# Altium footprint library 2.4G 天线.PcbLib: 14 footprints
Each footprint in its own frame and in the unit in brackets; x right, y up, seen from the top. Pads: shape width x height; smd on the part's side, far side on the other; paste and mask are expansions set on the pad; w line width, h text height; cw(c..) or ccw(c..) is an arc to the next point about the centre after c.
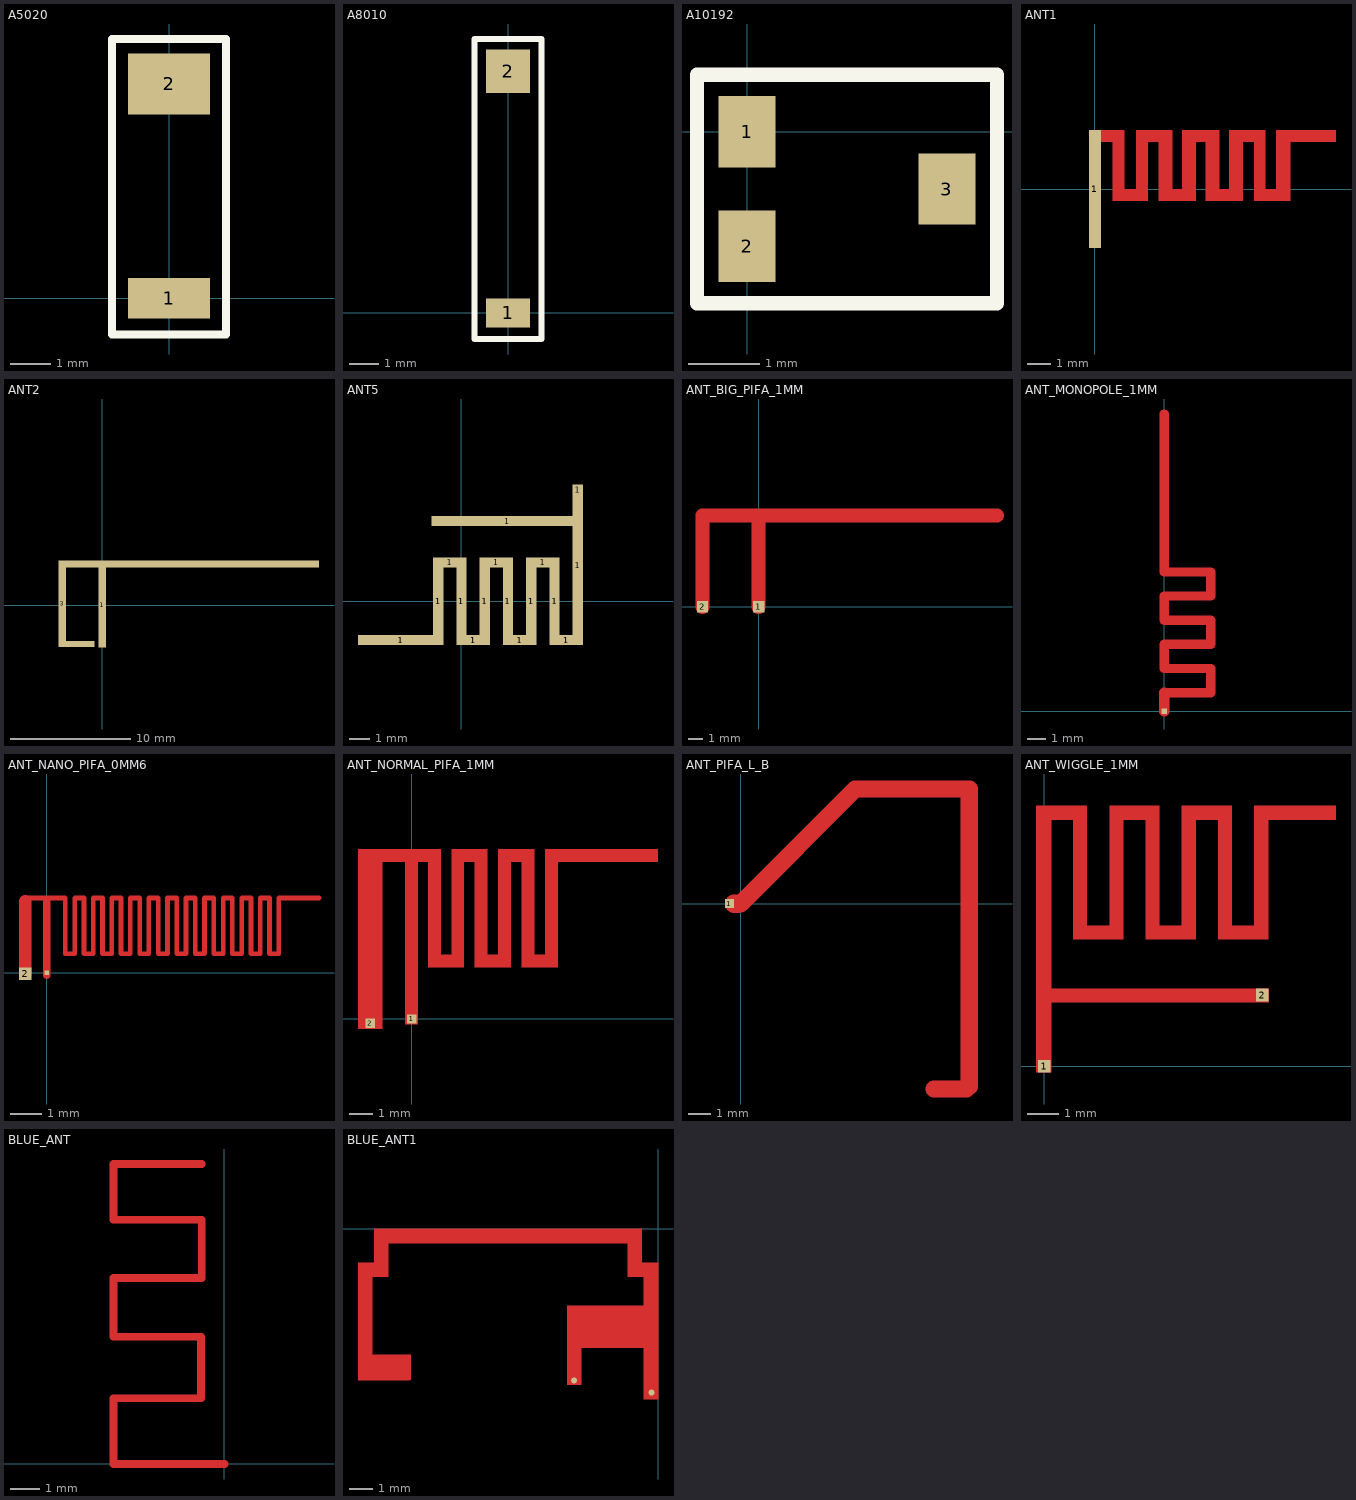
[diagram p0: the footprints below, top view; thin cyan lines are the x and y axes]

## A5020 [mm]
height 1.45
pads (2):
  rect 2x1 smd: 1(0,0)
  rect 2x1.5 smd: 2(0,5.25)
TopOverlay:
  lines w0.2: -1.397,-0.889 -1.397,6.35 1.397,6.35 1.397,-0.889 -0.175,-0.889 -1.397,-0.889

## A8010 [mm]
height 1.45
pads (2):
  rect 1.5x1 smd: 1(0,0)
  rect 1.5x1.5 smd: 2(0,8.25)
TopOverlay:
  lines w0.2: -1.143,-0.889 -1.143,9.35 1.143,9.35 1.143,-0.889 -0.175,-0.889 -1.143,-0.889

## A10192 [mm]
pads (3):
  rect 0.8x1 smd: 1(0,0) 2(0,-1.6) 3(2.8,-0.8)
TopOverlay:
  lines w0.2: -0.7,-2.4 -0.7,0.8 3.5,0.8 3.5,-2.4 -0.7,-2.4

## ANT1 [mm]
pads (1):
  rect 0.5x5 smd: 1(0,0)
TopLayer:
  rectangle: 8.2,2 10.24,2.5
  rectangle: 7.7,-0.5 8.3,2.5
  rectangle: 7.2,-0.5 7.8,0
  rectangle: 6.75,-0.5 7.25,2.5
  rectangle: 6.2,2 6.8,2.5
  rectangle: 5.7,-0.5 6.3,2.5
  rectangle: 5.2,-0.5 5.8,0
  rectangle: 4.7,-0.5 5.3,2.5
  rectangle: 4.2,2 4.8,2.5
  rectangle: 3.7,-0.5 4.3,2.5
  rectangle: 3.2,-0.5 3.8,0
  rectangle: 2.7,-0.5 3.3,2.5
  rectangle: 2.2,2 2.8,2.5
  rectangle: 1.75,-0.5 2.25,2.5
  rectangle: 1.2,-0.5 1.8,0
  rectangle: 0.24,2 0.76,2.5
  rectangle: 0.75,-0.5 1.25,2.5

## ANT2 [mm]
pads (4):
  rect 0.65x7 smd: 1(0,0)
  rect 3x0.5 smd: 2(-2.159,-3.226)
  rect 0.64x7.2 smd: 3(-3.335,0.137)
  rect 21.7x0.6 smd: 4(7.189,3.437)

## ANT5 [mil]
pads (26):
  rect 165x20 smd: 1(-117.5,-75) 1(-117.5,-75)
  rect 20x170 smd: 1(-45,0) 1(-45,0) 1(0,0) 1(0,0) 1(45,0) 1(45,0) 1(90,0) 1(90,0) 1(135,0) 1(135,0) 1(180,0) 1(180,0)
  rect 65x20 smd: 1(-22.5,75) 1(22.5,-75) 1(22.5,-75) 1(67.5,75) 1(112.5,-75) 1(112.5,-75) 1(157.5,75) 1(202.5,-75) 1(202.5,-75)
  rect 293x20 smd: 1(88.5,155)
  rect 20x310 smd: 1(225,70)
  rect 20x20 smd: 1(225,215.67)

## ANT_BIG_PIFA_1MM [mm]
pads (2):
  rect 0.8x0.8 smd: 1(0,0) 2(-4,0)
TopLayer:
  lines w1: -4,0 -4,6.5 17,6.5 ; 0,0 0,6.5

## ANT_MONOPOLE_1MM [mm]
pads (1):
  rect 0.3x0.3 smd: 1(0,0)
TopLayer:
  lines w0.5: 0,1 2.5,1 2.5,2.3 0,2.3 0,3.6 2.5,3.6 2.5,4.9 0,4.9 0,6.2 2.5,6.2 2.5,7.5 0,7.5 0,16
  lines w0.55: 0,0 0,1

## ANT_NANO_PIFA_0MM6 [mm]
pads (2):
  rect 0.15x0.15 smd: 1(0,0)
  rect 0.4x0.4 smd: 2(-0.7,-0.03)
TopLayer:
  lines w0.15: -0.7,2.42 0,2.42 0.6,2.42 0.6,0.62 0.9,0.62 0.9,2.42 1.2,2.42 1.2,0.62 1.5,0.62 1.5,2.42 1.8,2.42 1.8,0.62 2.1,0.62 2.1,2.42 2.4,2.42 2.4,0.62 2.7,0.62 2.7,2.42 3,2.42 3,0.62 3.3,0.62 3.3,2.42 3.6,2.42 3.6,0.62 3.9,0.62 3.9,2.42 4.2,2.42 4.2,0.62 4.5,0.62 4.5,2.42 4.8,2.42 4.8,0.62 5.1,0.62 5.1,2.42 5.4,2.42 5.4,0.62 5.7,0.62 5.7,2.42 6,2.42 6,0.62 6.3,0.62 6.3,2.42 6.6,2.42 6.6,0.62 6.9,0.62 6.9,2.42 7.2,2.42 7.2,0.62 7.5,0.62 7.5,2.42 8.8,2.42
  lines w0.25: 0,-0.08 0,2.37
  lines w0.4: -0.7,-0.03 -0.7,2.32

## ANT_NORMAL_PIFA_1MM [mm]
pads (2):
  rect 0.4x0.4 smd: 1(0,0) 2(-1.78,-0.18)
TopLayer:
  rectangle: -2.297,-0.435 -1.243,7.259
  rectangle: -2.297,6.706 1.237,7.259
  rectangle: -0.299,-0.245 0.256,6.751
  rectangle: 0.682,2.206 1.237,7.259
  rectangle: 0.682,2.206 2.237,2.761
  rectangle: 1.683,2.206 2.237,7.259
  rectangle: 1.683,6.704 3.238,7.259
  rectangle: 2.683,2.206 3.238,7.259
  rectangle: 2.683,2.206 4.236,2.761
  rectangle: 3.682,6.704 5.237,7.259
  rectangle: 4.682,2.206 5.237,7.259
  rectangle: 4.682,2.206 6.238,2.761
  rectangle: 5.683,2.206 6.238,7.259
  rectangle: 3.682,2.206 4.236,7.259
  rectangle: 5.683,6.704 10.507,7.259

## ANT_PIFA_L_B [mm]
pads (1):
  rect 0.4x0.4 smd: 1(-0.5,0)
TopLayer:
  lines w0.4: -0.4,0 0,0
  lines w0.762: 0,0 5.08,5.08 10.122,5.08 10.122,-8.09 ; 8.56,-8.204 10.008,-8.204
  lines w0.8: -0.3,0 -0.1,0

## ANT_WIGGLE_1MM [mm]
pads (2):
  rect 0.4x0.4 smd: 1(0,0) 2(6.93,2.26)
TopLayer:
  rectangle: -0.262,-0.199 0.238,8.274
  rectangle: 0.017,2.026 7.147,2.475
  rectangle: -0.262,7.825 1.363,8.274
  rectangle: 0.917,4.026 1.363,8.279
  rectangle: 0.917,4.026 2.517,4.476
  rectangle: 2.067,4.026 2.517,8.274
  rectangle: 2.067,7.824 3.668,8.274
  rectangle: 3.217,4.024 3.668,8.274
  rectangle: 3.217,4.024 4.818,4.475
  rectangle: 4.367,4.024 4.818,8.274
  rectangle: 4.367,7.824 5.969,8.277
  rectangle: 5.519,4.024 5.969,8.277
  rectangle: 5.519,4.024 7.117,4.475
  rectangle: 6.667,4.024 7.117,8.275
  rectangle: 6.667,7.826 9.267,8.275

## BLUE_ANT [mil]
TopLayer:
  lines w10: -29.71,397.28 -146.6,397.28 -146.6,323.28 -29.71,323.28 -29.71,246.28 -146.6,246.28 -146.6,168.28 -30.71,168.28 -30.71,87.28 -146.6,87.28 -146.6,-0.03 0.4,-0.03 ; 0.4,-0.03 0.4,-0.03

## BLUE_ANT1 [mil]
pads (2):
  round 10 smd: 1(-142,-256.5) 2(-11,-277)
TopLayer:
  region: 0,-57.09 -27.55,-57.09 -27.55,0 -480.31,0 -480.31,-57.09 -507.87,-57.09 -507.87,-255.91 -419.6,-255.4 -419.6,-212.6 -484.25,-212.6 -484.25,-80.71 -456.69,-80.71 -456.69,-23.62 -51.18,-23.62 -51.18,-80.71 -23.62,-80.71 -23.62,-129.92 -153.54,-129.92 -153.54,-263.78 -129.92,-263.78 -129.92,-200.79 -23.62,-200.79 -23.62,-287.4 0,-287.4
  region: -438.06,-213.34 -418.38,-213.34 -418.38,-255.6 -438.06,-255.6
  region: -465.62,-213.34 -445.94,-213.34 -445.94,-255.8 -465.62,-255.8
  region: -420.8,-256 -508,-256 -508,-57 -480,-57 -480,0 -28,0 -28,-57 0,-57 0,-288 -24,-288 -24,-201 -130,-201 -130,-264 -153,-264 -153,-130 -24,-130 -24,-81 -51,-81 -51,-24 -457,-24 -457,-81 -484,-81 -484,-213 -420.8,-213